# Altium integrated library TL3305BF260QG.IntLib: 1 symbol
Pins are listed as number, name and electrical type; pins without a type are passive.

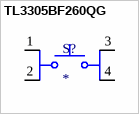
[diagram p0: symbol TL3305BF260QG]

## TL3305BF260QG
designator S?
Tactile Switch SPST-NO Top Actuated Surface Mount; MP: TL3305BF260QG; MF: E-Switch; Value: *; Purchase-URL: https://pricing.snapeda.com/search/part/TL3305BF260QG/?ref=eda; Package: None; Digi-Key_Part_Number: EG5354TR-ND
footprint SW_TL3305BF260QG
pins: 1, 2, 3, 4